# Altium schematic symbol library MergenElektronik_Connectors_TerminalConnectors_JSTConnectors.SchLib: 6 symbols
Pins are listed as number, name and electrical type; pins without a type are passive.

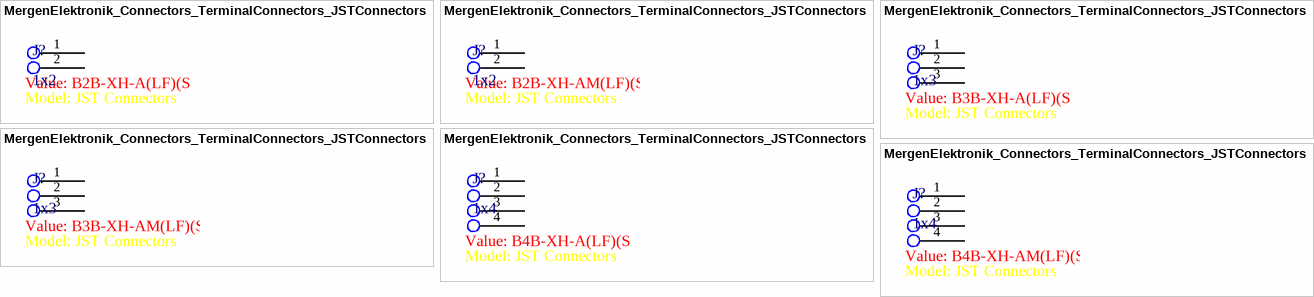
[diagram p0: symbols MergenElektronik_Connectors_TerminalConnectors_JSTConnectors_B2B-XH-A(LF)(SN) to MergenElektronik_Connectors_TerminalConnectors_JSTConnectors_B4B-XH-AM(LF)(SN)]

## MergenElektronik_Connectors_TerminalConnectors_JSTConnectors_B2B-XH-A(LF)(SN)
designator J?, comment 1x2  value B2B-XH-A(LF)(SN)  Model: JST Connectors
Mergen Elektronik - Connectors - Terminals - JST Connectors- 1x2 - B2B-XH-A(LF)(SN); Manufacturer: JST Sales America Inc.; Voltage Rated: 250V; Current Rating: 3A; Digi-Key Number: 455-2247-ND; Manufacturer Number: B2B-XH-A(LF)(SN); Mounting Type: THT; Temperature: -25°C up to 85°C; Farnell Number: 1516276; Package: B2B-XH-A; Supplier 1: Digi-Key; Supplier Part Number 1: 455-2247-ND
footprint MergenElektronik_Connectors_TerminalConnectors_JSTConnectors_B2B-XH-A (B2B-XH-A)
pins: 1, 2

## MergenElektronik_Connectors_TerminalConnectors_JSTConnectors_B2B-XH-AM(LF)(SN)
designator J?, comment 1x2  value B2B-XH-AM(LF)(SN)  Model: JST Connectors
Mergen Elektronik - Connectors - Terminals - JST Connectors- 1x2 - B2B-XH-AM(LF)(SN); Manufacturer: JST Sales America Inc.; Voltage Rated: 250V; Current Rating: 3A; Digi-Key Number: 455-2273-ND; Manufacturer Number: B2B-XH-AM(LF)(SN); Mounting Type: THT; Temperature: -25°C up to 85°C; Package: B2B-XH-AM; Supplier 1: Digi-Key; Supplier Part Number 1: 455-2273-ND
footprint MergenElektronik_Connectors_TerminalConnectors_JSTConnectors_B2B-XH-AM (B2B-XH-AM)
pins: 1, 2

## MergenElektronik_Connectors_TerminalConnectors_JSTConnectors_B3B-XH-A(LF)(SN)
designator J?, comment 1x3  value B3B-XH-A(LF)(SN)  Model: JST Connectors
Mergen Elektronik - Connectors - Terminals - JST Connectors- 1x3 - B3B-XH-A(LF)(SN); Manufacturer: JST Sales America Inc.; Voltage Rated: 250V; Current Rating: 3A; Digi-Key Number: 455-2248-ND; Manufacturer Number: B3B-XH-A(LF)(SN); Mounting Type: THT; Temperature: -25°C up to 85°C; Farnell Number: 1516277; Package: B3B-XH-A; Supplier 1: Digi-Key; Supplier Part Number 1: 455-2248-ND
footprint MergenElektronik_Connectors_TerminalConnectors_JSTConnectors_B3B-XH-A (B3B-XH-A)
pins: 1, 2, 3

## MergenElektronik_Connectors_TerminalConnectors_JSTConnectors_B3B-XH-AM(LF)(SN)
designator J?, comment 1x3  value B3B-XH-AM(LF)(SN)  Model: JST Connectors
Mergen Elektronik - Connectors - Terminals - JST Connectors- 1x3 - B3B-XH-AM(LF)(SN); Manufacturer: JST Sales America Inc.; Voltage Rated: 250V; Current Rating: 3A; Digi-Key Number: 455-2231-ND; Manufacturer Number: B3B-XH-AM(LF)(SN); Mounting Type: THT; Temperature: -25°C up to 85°C; Package: B3B-XH-AM; Supplier 1: Digi-Key; Supplier Part Number 1: 455-2231-ND
footprint MergenElektronik_Connectors_TerminalConnectors_JSTConnectors_B3B-XH-AM (B3B-XH-AM)
pins: 1, 2, 3

## MergenElektronik_Connectors_TerminalConnectors_JSTConnectors_B4B-XH-A(LF)(SN)
designator J?, comment 1x4  value B4B-XH-A(LF)(SN)  Model: JST Connectors
Mergen Elektronik - Connectors - Terminals - JST Connectors- 1x4 - B4B-XH-A(LF)(SN); Manufacturer: JST Sales America Inc.; Voltage Rated: 250V; Current Rating: 3A; Digi-Key Number: 455-2249-ND; Manufacturer Number: B4B-XH-A(LF)(SN); Mounting Type: THT; Temperature: -25°C up to 85°C; Farnell Number: 1516278; Package: B4B-XH-A; Supplier 1: Digi-Key; Supplier Part Number 1: 455-2249-ND
footprint MergenElektronik_Connectors_TerminalConnectors_JSTConnectors_B4B-XH-A (B4B-XH-A)
pins: 1, 2, 3, 4

## MergenElektronik_Connectors_TerminalConnectors_JSTConnectors_B4B-XH-AM(LF)(SN)
designator J?, comment 1x4  value B4B-XH-AM(LF)(SN)  Model: JST Connectors
Mergen Elektronik - Connectors - Terminals - JST Connectors- 1x4 - B4B-XH-AM(LF)(SN); Manufacturer: JST Sales America Inc.; Voltage Rated: 250V; Current Rating: 3A; Digi-Key Number: 455-2237-ND; Manufacturer Number: B4B-XH-AM(LF)(SN); Mounting Type: THT; Temperature: -25°C up to 85°C; Farnell Number: 1830884; Package: B4B-XH-AM; Supplier 1: Digi-Key; Supplier Part Number 1: 455-2237-ND
footprint MergenElektronik_Connectors_TerminalConnectors_JSTConnectors_B4B-XH-AM (B4B-XH-AM)
pins: 1, 2, 3, 4